# Altium footprint library Supernova Switches.PcbLib: 29 footprints (part 1 of 2)
Each footprint in its own frame and in the unit in brackets; x right, y up, seen from the top. Pads: shape width x height; smd on the part's side, far side on the other; paste and mask are expansions set on the pad; w line width, h text height; cw(c..) or ccw(c..) is an arc to the next point about the centre after c.
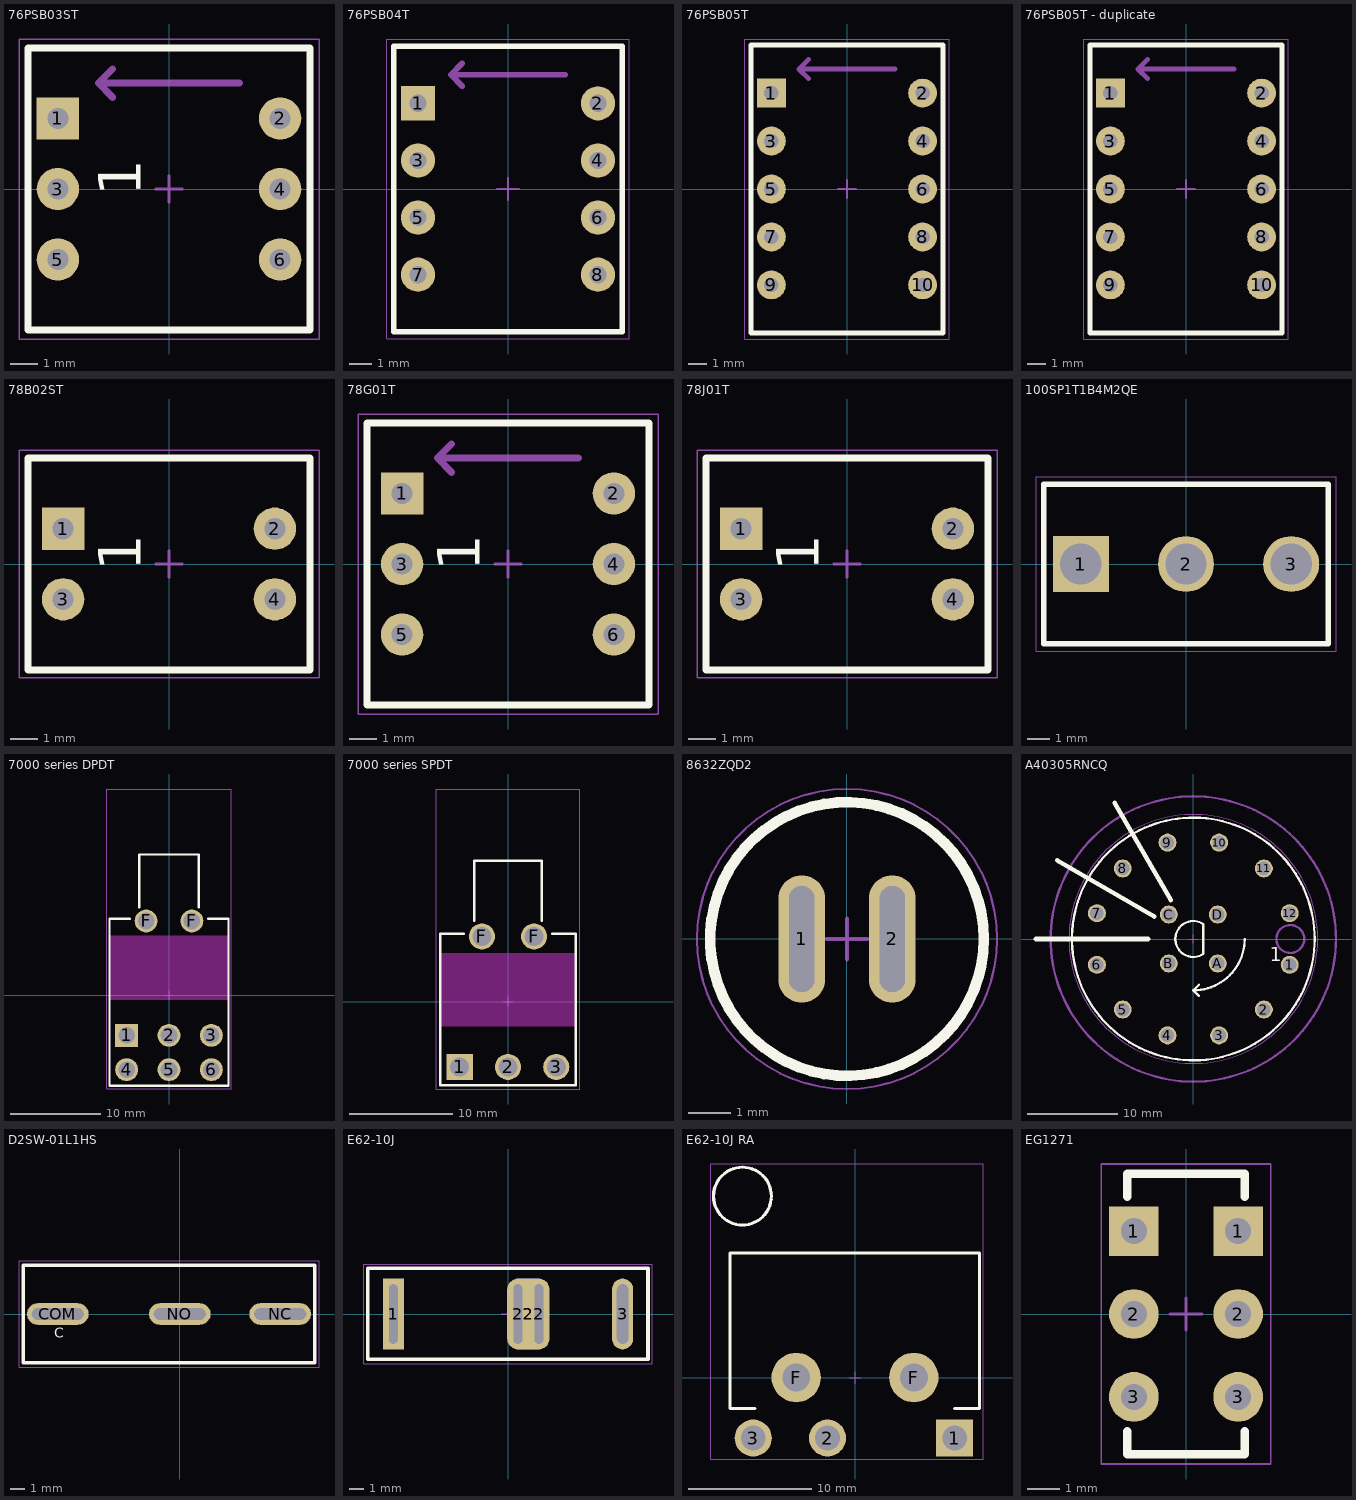
[diagram p0: the footprints below, top view; thin cyan lines are the x and y axes]

## 76PSB03ST [mil]
pads (6):
  rect 60x60 hole 30: 1(-157.5,100)
  round 60 hole 30: 2(157.5,100) 3(-157.5,0) 4(157.5,0) 5(-157.5,-100) 6(157.5,-100)
Top Overlay:
  lines w10: -200,-200 200,-200 200,200 -200,200 -200,-200
  text "1" at -40,-10 h60
Top 3D Body:
  lines w10: -80,130 -100,150 ; -80,170 -100,150 ; 100,150 -100,150
  text "ON" at -50,70 h60
Top Courtyard:
  lines w1.97: -212.6,-212.6 212.6,-212.6 212.6,212.6 -212.6,212.6 -212.6,-212.6
  lines w3.94: -18.9,0 18.9,0 ; 0,-18.9 0,18.9
3D body "c-5435802-2-b-3d.stp": height 290, standoff -135.16, extent -190.16,-189.96 189.96,189.97

## 76PSB04T [mil]
pads (8):
  rect 60x60 hole 30: 1(-157.5,150)
  round 60 hole 30: 2(157.5,150) 3(-157.5,50) 4(157.5,50) 5(-157.5,-50) 6(157.5,-50) 7(-157.5,-150) 8(157.5,-150)
Top Overlay:
  lines w10: -200,-250 -200,250 200,250 200,-250 -200,-250
Top 3D Body:
  lines w10: -80,180 -100,200 ; -80,220 -100,200 ; 100,200 -100,200
  text "ON" at -50,120 h60
Top Courtyard:
  lines w1.97: -212.6,-262.6 -212.6,262.6 212.6,262.6 212.6,-262.6 -212.6,-262.6
  lines w3.94: -18.9,0 18.9,0 ; 0,-18.9 0,18.9
3D body "c-5435802-3-b-3d.stp": height 291.34, standoff -133.82, extent -190.16,-239.96 189.96,239.97

## 76PSB05T [mil]
pads (10):
  rect 60x60 hole 30: 1(-157.5,200)
  round 60 hole 30: 2(157.5,200) 3(-157.5,100) 4(157.5,100) 5(-157.5,0) 6(157.5,0) 7(-157.5,-100) 8(157.5,-100) 9(-157.5,-200) 10(157.5,-200)
Top Overlay:
  lines w10: -200,-300 -200,300 200,300 200,-300 -200,-300
Top 3D Body:
  lines w10: -80,230 -100,250 ; -80,270 -100,250 ; 100,250 -100,250
  text "ON" at -50,170 h60
Top Courtyard:
  lines w1.97: -212.6,-312.6 -212.6,312.6 212.6,312.6 212.6,-312.6 -212.6,-312.6
  lines w3.94: -18.9,0 18.9,0 ; 0,-18.9 0,18.9
3D body "c-5435802-4-b-3d.stp": height 290.16, standoff -135, extent -190.16,-288.97 189.96,292.13

## 76PSB05T - duplicate [mil]
pads (10):
  rect 60x60 hole 30: 1(-157.5,200)
  round 60 hole 30: 2(157.5,200) 3(-157.5,100) 4(157.5,100) 5(-157.5,0) 6(157.5,0) 7(-157.5,-100) 8(157.5,-100) 9(-157.5,-200) 10(157.5,-200)
Top Overlay:
  lines w10: -200,-300 200,-300 200,300 -200,300 -200,-300
Top 3D Body:
  lines w10: -80,230 -100,250 ; -80,270 -100,250 ; 100,250 -100,250
  text "ON" at -50,170 h60
Top Courtyard:
  lines w1.97: -212.6,-312.6 212.6,-312.6 212.6,312.6 -212.6,312.6 -212.6,-312.6
  lines w3.94: -18.9,0 18.9,0 ; 0,-18.9 0,18.9
3D body "c-5435802-4-b-3d.stp": height 290.16, standoff -135, extent -190.16,-288.97 189.96,292.13

## 78B02ST [mil]
pads (4):
  rect 60x60 hole 30: 1(-150,50)
  round 60 hole 30: 2(150,50) 3(-150,-50) 4(150,-50)
Top Overlay:
  lines w10: -200,-150 -200,150 200,150 200,-150 -200,-150
  text "1" at -40,-10 h60
Top Courtyard:
  lines w1.97: -212.6,-161.42 -212.6,161.42 212.6,161.42 212.6,-161.42 -212.6,-161.42
  lines w3.94: -18.9,0 18.9,0 ; 0,-18.9 0,18.9
3D body "78B02T.stp": height 320.67, standoff -127.33, extent -190,-140.24 190,139.76

## 78G01T [mil]
pads (6):
  rect 60x60 hole 30: 1(-150,100)
  round 60 hole 30: 2(150,100) 3(-150,0) 4(150,0) 5(-150,-100) 6(150,-100)
Top Overlay:
  lines w10: -200,-200 200,-200 200,200 -200,200 -200,-200
  text "1" at -40,-10 h60
Top 3D Body:
  lines w10: -80,130 -100,150 ; -80,170 -100,150 ; 100,150 -100,150
  text "ON" at -50,70 h60
Top Courtyard:
  lines w1.97: -212.6,-212.6 212.6,-212.6 212.6,212.6 -212.6,212.6 -212.6,-212.6
  lines w3.94: -18.9,0 18.9,0 ; 0,-18.9 0,18.9
3D body: height 265, standoff 20, extent -190,-190 190,190
3D body: height 315, standoff 265, extent -90,-100 -20,100
3D body: height 136, standoff -136, extent -156,90 -144,110
3D body: height 136, standoff -136, extent -156,-10 -144,10
3D body: height 136, standoff -136, extent -156,-110 -144,-90
3D body: height 136, standoff -136, extent 144,-110 156,-90
3D body: height 136, standoff -136, extent 144,-10 156,10
3D body: height 136, standoff -136, extent 144,90 156,110

## 78J01T [mil]
pads (4):
  rect 60x60 hole 30: 1(-150,50)
  round 60 hole 30: 2(150,50) 3(-150,-50) 4(150,-50)
Top Overlay:
  lines w10: -200,-150 -200,150 200,150 200,-150 -200,-150
  text "1" at -40,-10 h60
Top Courtyard:
  lines w1.97: -212.6,-161.42 -212.6,161.42 212.6,161.42 212.6,-161.42 -212.6,-161.42
  lines w3.94: -18.9,0 18.9,0 ; 0,-18.9 0,18.9
3D body: height 265, standoff 20, extent -190,-140 190,140
3D body: height 136, standoff -136, extent -156,-60 -144,-40
3D body: height 136, standoff -136, extent -156,40 -144,60
3D body: height 136, standoff -136, extent 144,40 156,60
3D body: height 136, standoff -136, extent 144,-60 156,-40
3D body: height 315, standoff 265, extent -90,-50 -20,50

## 100SP1T1B4M2QE [mm]
pads (3):
  rect 2.5x2.5 hole 1.85: 1(-4.7,0)
  round 2.5 hole 1.85: 2(0,0) 3(4.7,0)
Top Overlay:
  lines w0.254: -6.35,-3.556 6.35,-3.556 6.35,3.556 -6.35,3.556 -6.35,-3.556
Top Courtyard:
  lines w0.05: -6.7,-3.9 -6.7,3.9 6.7,3.9 6.7,-3.9 -6.7,-3.9
  lines w0.1: -0.48,0 0.48,0 ; 0,-0.48 0,0.48
3D body "100SPxT1B4M2xE.stp": height 29.69, standoff -5.09, extent -6.35,-3.43 6.35,3.43

## 7000 series DPDT [mil]
pads (8):
  rect 100x100 hole 73: 1(-185,-175)
  round 100 hole 73: 2(0,-175) 3(185,-175) 4(-185,-325) 5(0,-325) 6(185,-325) F(-100,325) F(100,325)
Top Layer keep-out:
  rectangle: -259.84,-20 259.84,261.02
Top Overlay:
  lines w10: -170,335 -260,335 -260,-395 260,-395 260,335 170,335 ; -130,385 -130,615 130,615 130,385
Top Courtyard:
  lines w1.97: -271.65,-409.45 271.65,-409.45 271.65,901.57 -271.65,901.57 -271.65,-409.45
  lines w3.94: -18.9,0 18.9,0 ; 0,-18.9 0,18.9
3D body "72xxmd9a_080812.stp": height 451, standoff -125, extent -249.99,-346.74 250.01,891.56

## 7000 series SPDT [mil]
pads (5):
  rect 100x100 hole 73: 1(-185,-250)
  round 100 hole 73: 2(0,-250) 3(185,-250) F(-100,250) F(100,250)
Top Layer keep-out:
  rectangle: -259.84,-95 259.84,186.02
Top Overlay:
  lines w10: -170,260 -260,260 -260,-320 260,-320 260,260 170,260 ; -130,310 -130,540 130,540 130,310
Top Courtyard:
  lines w1.97: -275.59,-334.65 -275.59,814.96 275.59,814.96 275.59,-334.65 -275.59,-334.65
  lines w3.94: -18.9,0 18.9,0 ; 0,-18.9 0,18.9
3D body "710xmd9a_101411.stp": height 269, standoff -120, extent -249.99,-276.99 250.01,807.18

## 8632ZQD2 [mm]
pads (2):
  oval 1.1x3 hole 0.6 slot 2.5 at 90 deg: 1(-1.067,0) 2(1.067,0)
Top Overlay:
  circle w0.254: c0,0 r3.225
Top Courtyard:
  circle w0.05: c0,0 r3.536
  lines w0.1: -0.48,0 0.48,0 ; 0,-0.48 0,0.48
3D body: height 11, standoff 10, extent -3.215,-2.784 3.215,2.784
3D body "8632ZQD2.stp": height 16.74, standoff -2.86, extent -3.175,-3.172 3.175,3.172

## A40305RNCQ [mm]
pads (16):
  round 2 hole 1.5: 1(10.722,-2.873) 2(7.849,-7.849) 3(2.873,-10.722) 4(-2.873,-10.722) 5(-7.849,-7.849) 6(-10.722,-2.873) 7(-10.722,2.873) 8(-7.849,7.849) 9(-2.873,10.722) 10(2.873,10.722) 11(7.849,7.849) 12(10.722,2.873) A(2.722,-2.722) B(-2.722,-2.722) C(-2.722,2.722) D(2.722,2.722)
Top Overlay:
  circle w0.254: c0,0 r13.5
  lines w0.254: 0.635,-6.35 0,-5.715 ; 0.635,-5.08 0,-5.715 ; 5.715,0 cw(c0,0) 0,-5.715 ; -17.5,0 -5,0 -17.5,0 ; 1.109,-1.664 cw(c0,0) 1.109,1.664 1.109,-1.664
  lines w0.508: -17.5,0 -5,0 ; -15.155,8.75 -4.33,2.5 ; -8.75,15.155 -2.5,4.33
  text "1" at 8.5,-2.5 h1.52
Mechanical 5:
  circle w0.254: c10.795,0 r1.55
  circle w0.254: c0,0 r15.875
Top Courtyard:
  circle w0.05: c0,0 r13.842
  lines w0.1: -0.48,0 0.48,0 ; 0,-0.48 0,0.48
3D body "a40305xxc.stp": height 35.19, standoff -3.88, extent -13.157,-13.157 13.157,13.157

## D2SW-01L1HS [mm]
pads (3):
  oval 4.3x1.5 hole 0.8 slot 3.6 at 0 deg: COM(-8.5,0) NC(7,0) NO(0,0)
Top Overlay:
  lines w0.254: -10.9,-3.4 9.4,-3.4 9.4,3.4 -10.9,3.4 -10.9,-3.4
  text "C" at -8.75,-1.65 h0.7
Top Courtyard:
  lines w0.05: -11.2,-3.7 9.7,-3.7 9.7,3.7 -11.2,3.7 -11.2,-3.7
  lines w0.1: -0.48,0 0.48,0 ; 0,-0.48 0,0.48
3D body "OMRON D2SW-01L1HS.STEP": height 15.73, standoff -7.42, extent -13.155,-3.2 12.155,3.2

## E62-10J [mm]
pads (6):
  rect 1.5x5 hole 0.6 slot 4.2 at 90 deg: 1(-8.105,0)
  rrect100% 1.5x5 hole 0.6 slot 4.2 at 90 deg: 2(0.695,0) 2(2.185,0)
  rect 1.524x5 smd far side: 2(1.435,0)
  rect 1.524x5 smd: 2(1.445,0)
  rrect100% 1.5x5 hole 0.8 slot 4.2 at 90 deg: 3(8.105,0)
Top Overlay:
  lines w0.254: -9.905,-3.2 9.895,-3.2 9.895,3.226 -9.905,3.226 -9.905,-3.2
Top Courtyard:
  lines w0.05: -10.2,-3.5 10.2,-3.5 10.2,3.5 -10.2,3.5 -10.2,-3.5
  lines w0.1: -0.48,0 0.48,0 ; 0,-0.48 0,0.48
3D body "SS_01GL2.step": height 22.3, standoff -3.4, extent -9.959,-3.2 10.263,3.2
3D body "Limit Switch.STEP": height 19.42, standoff -3.43, extent -9.972,-3.175 11.431,3.175

## E62-10J RA [mm]
pads (5):
  rect 3x3 hole 2: 1(8.066,-4.9)
  rrect100% 3x3 hole 2: 2(-2.224,-4.9) 3(-8.244,-4.9)
  round 4 / inner round 6.604 / far side round 6.604 hole 2.261: F(-4.763,0) F(4.763,0)
Top Overlay:
  circle w0.254: c-9.12,14.7 r2.343
  lines w0.254: -8.12,-2.5 -10.119,-2.5 -10.119,10.1 10.081,10.1 10.081,-2.5 8.08,-2.5
Top Courtyard:
  lines w0.05: -11.7,-6.6 10.4,-6.6 10.4,17.3 -11.7,17.3 -11.7,-6.6
  lines w0.1: -0.48,0 0.48,0 ; 0,-0.48 0,0.48
3D body "Limit Switch, Roller Lever.STEP": height 6.38, standoff 0.03, extent -11.503,-5.829 9.899,17.017

## EG1271 [mil]
pads (6):
  rect 60x60 hole 31.5: 1(-62.99,100) 1(62.99,100)
  round 60 hole 31.5: 2(-62.99,0) 2(62.99,0) 3(-62.99,-100) 3(62.99,-100)
Top Overlay:
  lines w10: -70.87,-141.73 -70.87,-169.29 70.87,-169.29 70.87,-141.73 ; -70.87,141.73 -70.87,169.29 70.87,169.29 70.87,141.73
Top Courtyard:
  lines w1.97: -102.36,-181.1 -102.36,98.43 -102.36,181.1 102.36,181.1 102.36,-181.1 -102.36,-181.1
  lines w3.94: -18.9,0 18.9,0 ; 0,-18.9 0,18.9
3D body "EG1271.stp": height 232.28, standoff -102.36, extent -70.87,-167.31 70.87,167.33